# Altium footprint library WIRELESS_UART.PcbLib: 38 footprints (part 1 of 3)
Each footprint in its own frame and in the unit in brackets; x right, y up, seen from the top. Pads: shape width x height; smd on the part's side, far side on the other; paste and mask are expansions set on the pad; w line width, h text height; cw(c..) or ccw(c..) is an arc to the next point about the centre after c.
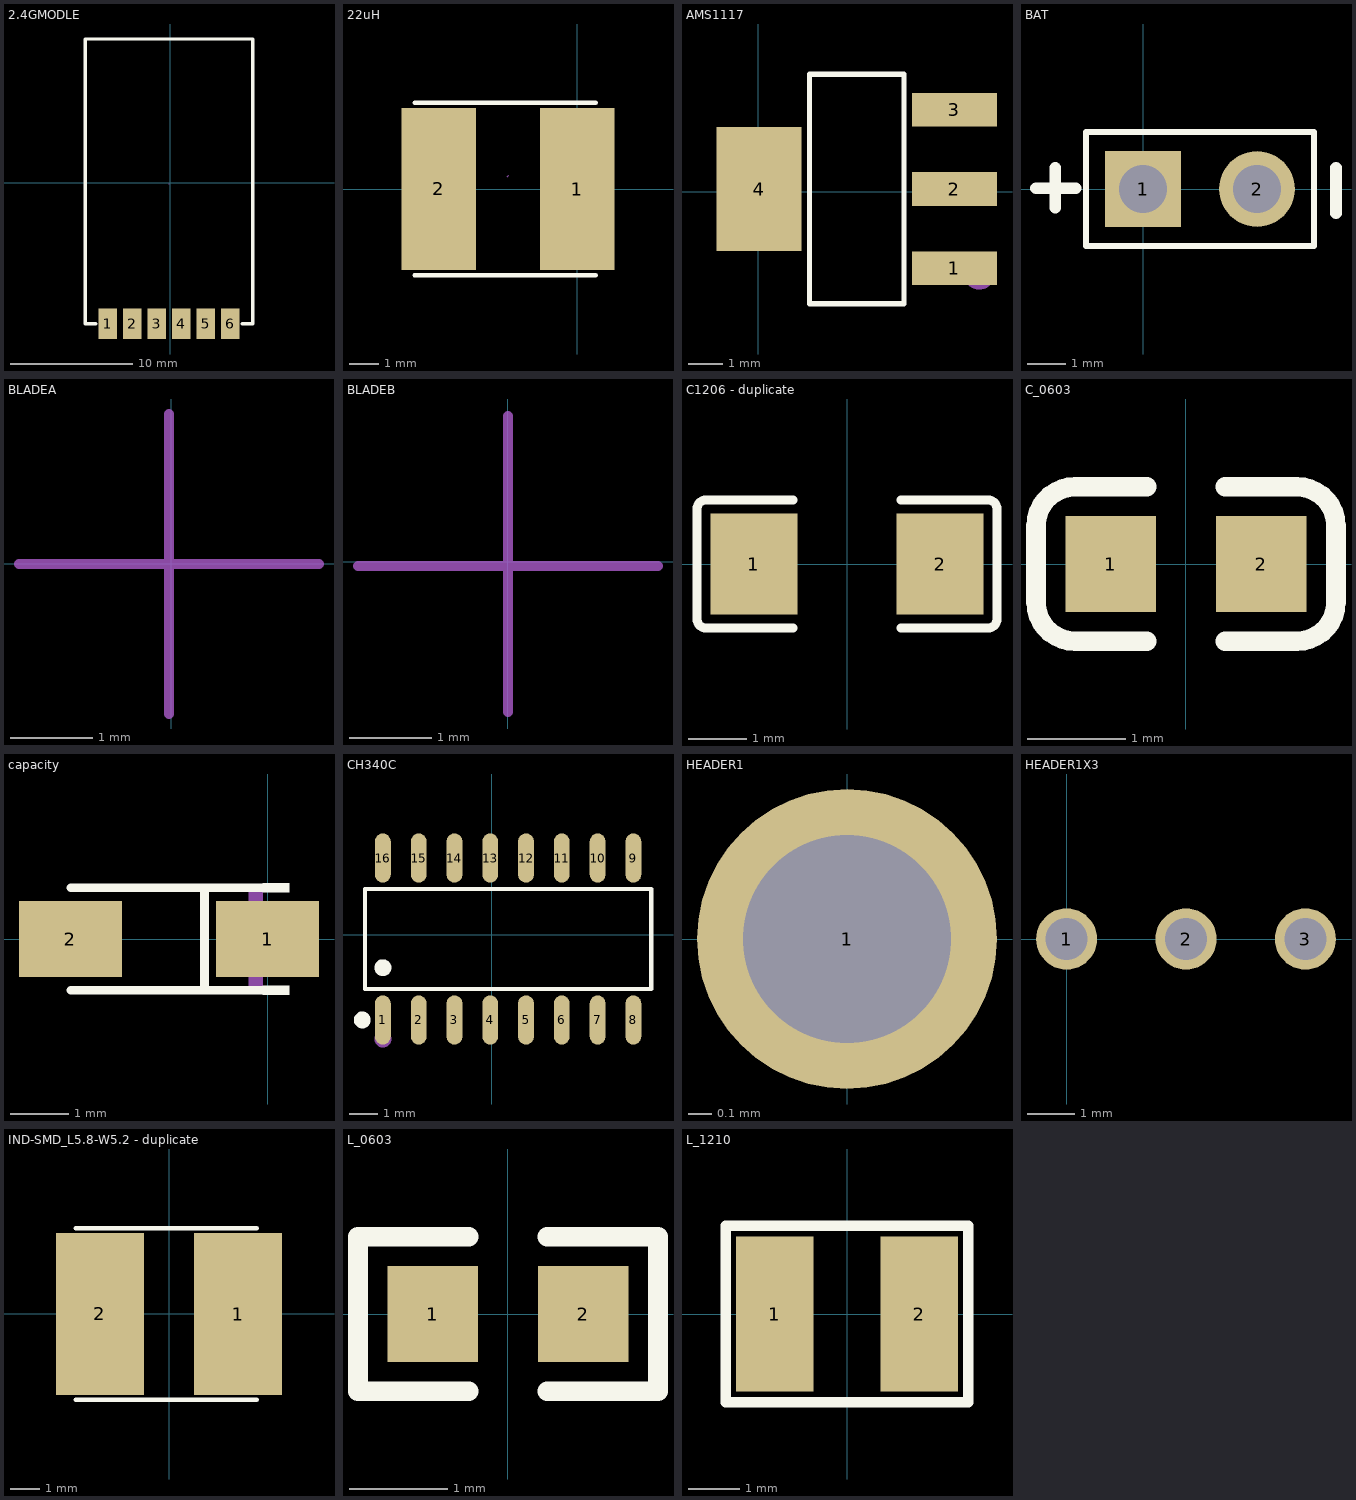
[diagram p0: the footprints below, top view; thin cyan lines are the x and y axes]

## 2.4GMODLE [mm]
pads (6):
  rect 1.524x2.5 smd: 1(-5.084,-11.526) 2(-3.084,-11.526) 3(-1.084,-11.526) 4(0.916,-11.526) 5(2.916,-11.526) 6(4.916,-11.526)
Top Overlay:
  lines w0.254: -6.077,-11.526 -6.934,-11.526 -6.934,11.774 6.766,11.774 6.766,-11.526 5.909,-11.526
Mechanical 15:
  lines w0.003: -0.084,-0.055 -0.084,-0.054

## 22uH [mil]
pads (2):
  rect 100x216 smd: 1(0,0) 2(-185.08,0)
Top Overlay:
  lines w6: -217.54,-115 24.66,-115 ; -217.54,115 24.66,115
Mechanical 15:
  lines w0.1: -93.54,16.25 -91.54,18.25

## 8520Motor [mm]
3D body "720空?": height 20.3, standoff -8.9, extent -4.496,-4.496 4.504,4.504

## AMS1117 [mm]
pads (4):
  rect 2.47x0.98 smd: 1(5.695,-2.224) 2(5.695,0.076) 3(5.695,2.376)
  rect 2.47x3.6 smd: 4(0.025,0.076)
Top Overlay:
  lines w0.152: 1.489,-3.25 1.489,3.402 4.232,3.402 4.232,-3.25 1.489,-3.25
Mechanical 15:
  circle w0.5: c6.416,-2.337 r0.25

## BAT [mm]
pads (2):
  rect 2x2 hole 1.27: 1(0,0)
  round 2 hole 1.27: 2(3,0)
Top Overlay:
  lines w0.152: -1.5,-1.5 4.5,-1.5 4.5,1.5 -1.5,1.5 -1.5,-1.5
  lines w0.305: -2.819,0.023 -1.769,0.023 ; -2.314,-0.492 -2.314,0.559 ; 5.08,-0.641 5.08,0.559

## BLADEA [mm]
Mechanical 15:
  lines w0.12: -1.854,0 -0.025,0 ; -0.025,-1.829 -0.025,0 ; -0.025,1.829 -0.025,0 ; 1.803,0 -0.025,0
3D body "A桨叶.STEP": height 20, standoff 15, extent -27.5,-3.912 27.5,3.924

## BLADEB [mm]
Mechanical 15:
  lines w0.12: -1.829,-0.051 0,-0.051 ; 0,-1.829 0,0 ; 0,1.778 0,-0.051 ; 1.829,-0.051 0,-0.051
3D body "B桨叶.STEP": height 20, standoff 15, extent -27.5,-3.997 27.5,3.997

## C1206 - duplicate [mm]
pads (2):
  rect 1.485x1.728 smd: 1(-1.593,0) 2(1.593,0)
Top Overlay:
  lines w0.152: -0.926,-1.093 -2.411,-1.093 cw(c-2.411,-0.94) -2.564,-0.94 -2.564,0.94 cw(c-2.411,0.94) -2.411,1.093 -0.926,1.093 ; 0.926,-1.093 2.411,-1.093 ccw(c2.411,-0.94) 2.564,-0.94 2.564,0.94 ccw(c2.411,0.94) 2.411,1.093 0.926,1.093

## C_0603 [mm]
pads (2):
  rect 0.93x0.98 smd: 1(-0.77,0) 2(0.77,0)
Top Overlay:
  lines w0.2: -0.4,-0.79 -1.135,-0.79 cw(c-1.135,-0.39) -1.535,-0.39 -1.535,0.39 cw(c-1.135,0.39) -1.135,0.79 -0.4,0.79 ; 0.4,-0.79 1.135,-0.79 ccw(c1.135,-0.39) 1.535,-0.39 1.535,0.39 ccw(c1.135,0.39) 1.135,0.79 0.4,0.79
3D body "User Library-0603 SMD Capacitor.STEP": height 0.3, standoff 0, extent -0.8,-0.4 0.8,0.4

## capacity [mm]
pads (2):
  rect 1.758x1.296 smd: 1(0,0) 2(-3.373,0)
Top Overlay:
  region: -0.086,-0.952 -0.086,-0.8 0.371,-0.8 0.371,-0.952
  region: -0.086,0.952 -0.086,0.8 0.371,0.8 0.371,0.952
  lines w0.152: -3.362,-0.876 -0.01,-0.876 ; -3.362,0.876 -0.01,0.876 ; -1.082,-0.876 -1.082,0.876
Mechanical 15:
  region: -0.086,0.8 -0.086,0.4 -0.326,0.4 -0.326,0.8
  region: -0.086,-0.8 -0.086,-0.4 -0.326,-0.4 -0.326,-0.8
  region: -0.386,-0.4 -0.386,0.4 -0.506,0.4 -0.506,-0.4
  region: -0.206,-0.06 -0.206,0.06 -0.686,0.06 -0.686,-0.06
  region: -3.166,-0.06 -3.166,0.06 -2.686,0.06 -2.686,-0.06

## CH340C [mm]
pads (16):
  oval 0.56x1.745 smd: 1(-3.861,-3.027) 2(-2.591,-3.027) 3(-1.321,-3.027) 4(-0.051,-3.027) 5(1.219,-3.027) 6(2.489,-3.027) 7(3.759,-3.027) 8(5.029,-3.027) 9(5.029,2.718) 10(3.759,2.718) 11(2.489,2.718) 12(1.219,2.718) 13(-0.051,2.718) 14(-1.321,2.718) 15(-2.591,2.718) 16(-3.861,2.718)
Top Overlay:
  circle w0.3: c-3.861,-1.174 r0.15
  circle w0.3: c-4.593,-3.027 r0.15
  lines w0.152: -4.492,-1.926 -4.492,1.617 5.66,1.617 5.66,-1.926 -4.492,-1.926
Mechanical 15:
  circle w0.3: c-3.861,-3.705 r0.15

## HEADER1 [mm]
pads (1):
  round 1.3 hole 0.9: 1(0,0)
3D body "HDR2.54-1P.STEP": height 8.5, standoff -3, extent -1.26,-1.26 1.28,1.28

## HEADER1X3 [mm]
pads (3):
  round 1.3 hole 0.9: 1(0,0) 2(2.54,0) 3(5.08,0)
3D body "HDR2.54-1P.STEP": height 8.5, standoff -3, extent -1.26,-1.26 1.28,1.28
3D body "HDR2.54-1P.STEP": height 8.5, standoff -3, extent 1.28,-1.26 3.82,1.28
3D body "HDR2.54-1P.STEP": height 8.5, standoff -3, extent 3.82,-1.26 6.36,1.28

## IND-SMD_L5.8-W5.2 - duplicate [mm]
pads (2):
  rect 3x5.5 smd: 1(2.35,0) 2(-2.351,0)
Top Overlay:
  lines w0.152: -3.175,-2.921 2.977,-2.921 ; -3.175,2.921 2.977,2.921
Top Paste:
  region: -2.972,-2.6 -2.972,2.6 -0.772,2.6 -0.772,-2.6
  region: 2.972,2.6 2.972,-2.6 0.772,-2.6 0.772,2.6

## L_0603 [mm]
pads (2):
  rect 0.93x0.98 smd: 1(-0.77,0) 2(0.77,0)
Top Overlay:
  lines w0.2: -0.4,-0.79 -1.535,-0.79 -1.535,0.79 -0.4,0.79 ; 0.4,-0.79 1.535,-0.79 1.535,0.79 0.4,0.79
3D body "User Library-RES_1609-0603.STEP": height 0.56, standoff 0, extent -0.85,-0.4 0.85,0.4

## L_1210 [mm]
pads (2):
  rect 1.5x3 smd: 1(-1.394,0) 2(1.394,0)
Top Overlay:
  lines w0.2: -2.337,-1.702 2.337,-1.702 2.337,1.702 -2.337,1.702 -2.337,-1.702
3D body "电?": height 1.9, standoff 0, extent 0,0.025 3.476,3.03
3D body "电?": height 1.9, standoff 0, extent 0.076,0.152 3.552,3.157
3D body "电?": height 1.9, standoff 0, extent -1.89,-1.506 1.585,1.499